# Altium footprint library 500ASSP3M6QE.PCBLIB: 1 footprints
Each footprint in its own frame and in the unit in brackets; x right, y up, seen from the top. Pads: shape width x height; smd on the part's side, far side on the other; paste and mask are expansions set on the pad; w line width, h text height; cw(c..) or ccw(c..) is an arc to the next point about the centre after c.
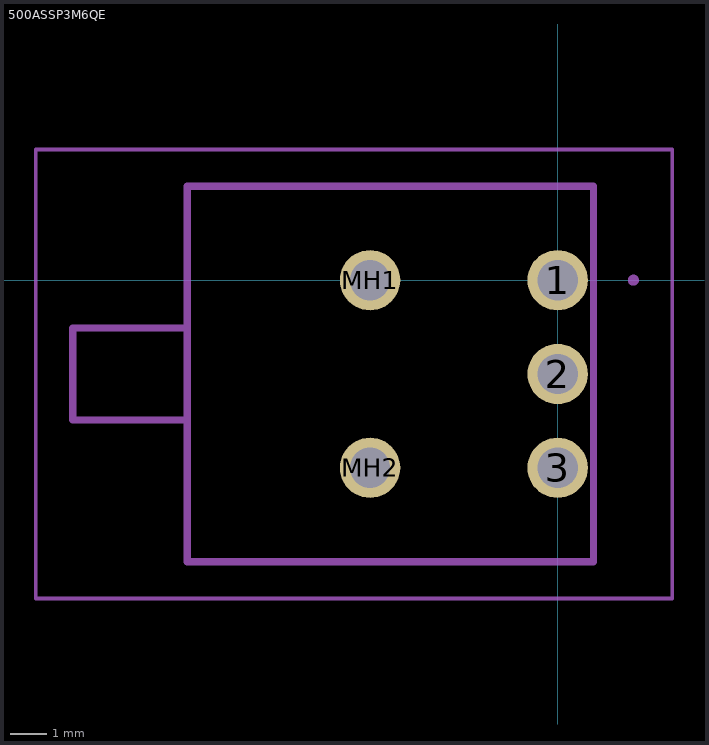
[diagram p0: the footprint, top view; thin cyan lines are the x and y axes]

## 500ASSP3M6QE [mm]
pads (5):
  round 1.635 hole 1.09: 1(0,0) 2(0,-2.54) 3(0,-5.08) MH1(-5.08,0) MH2(-5.08,-5.08)
tDocu:
  lines w0.1: -14.13,-8.62 3.1,-8.62 3.1,3.54 -14.13,3.54 -14.13,-8.62
  lines w0.2: -13.13,-3.785 -10.03,-3.785 -10.03,-1.295 -13.13,-1.295 -13.13,-3.785 ; -10.03,-7.62 0.97,-7.62 0.97,2.54 -10.03,2.54 -10.03,-7.62
tPlace:
  lines w0.1: -13.13,-3.785 -10.03,-3.785 -10.03,-1.295 -13.13,-1.295 -13.13,-3.785 ; -10.03,-7.62 0.97,-7.62 0.97,2.54 -10.03,2.54 -10.03,-7.62
  lines w0.2: 2,0 ccw(c2.05,0) 2.1,0 ; 2,0 cw(c2.05,0) 2.1,0 ; 2,0 ccw(c2.05,0) 2.1,0
3D body "500ASSP3M6QE.stp": height 5.08, standoff -3.81, extent -13.106,-7.62 0.569,2.54